# EAGLE library part DSS4140V-7 (library diodes-inc-e14)
LOW VCE(SAT) NPN TRANSISTOR
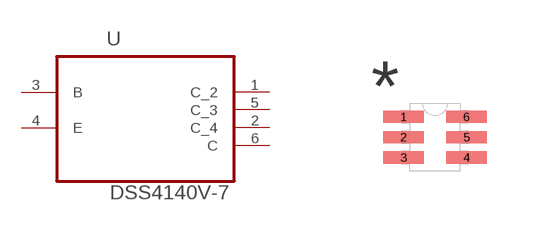
[diagram p30: symbol with the pads of SOT50P170X60-6N; footprint SOT50P170X60-6N]

Designator prefix U

## DSS4140V-7 (MPN: DSS4140V-7; OC_FARNELL: 1710704; OC_NEWARK: 25R4557; PACKAGE: SOT-563-6; SUPPLIER: Diodes Inc)  [SOT50P170X60-6N]
1  C_2  pas
2  C_4  pas
3  B  pas
4  E  pas
5  C_3  pas
6  C  pas

## Footprint SOT50P170X60-6N (pad centres in mm)
smd 1.016 x 0.305: 1 -0.787,0.508; 2 -0.787,0; 3 -0.787,-0.508; 4 0.787,-0.508; 5 0.787,0; 6 0.787,0.508